# Altium schematic symbol library CAP 10uF 50V.Schlib: 1 symbol
Pins are listed as number, name and electrical type; pins without a type are passive.

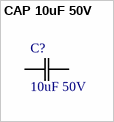
[diagram p0: symbol CAP 10uF 50V]

## CAP 10uF 50V
designator C?, comment 10uF 50V
CAP CER 10UF 50V X7R
pins: 1 C1, 2 C2